# Altium footprint library RMelf0207.PcbLib: 1 footprints
Each footprint in its own frame and in the unit in brackets; x right, y up, seen from the top. Pads: shape width x height; smd on the part's side, far side on the other; paste and mask are expansions set on the pad; w line width, h text height; cw(c..) or ccw(c..) is an arc to the next point about the centre after c.
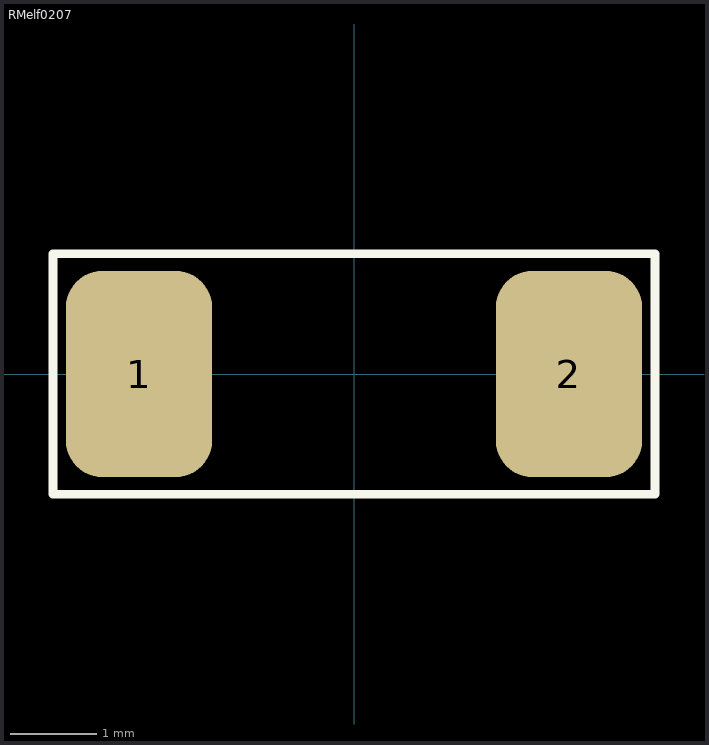
[diagram p0: the footprint, top view; thin cyan lines are the x and y axes]

## RMelf0207 [mm] "Metal Electrode Face (MELF) Diode; Body 5 x 2.5 mm (LxDia)"
height 2.5
pads (2):
  rrect50% 1.7x2.4 smd: 1(-2.5,0) 2(2.5,0)
Top Overlay:
  lines w0.1: -3.5,-1.4 3.5,-1.4 3.5,1.4 -3.5,1.4 -3.5,-1.4
3D body "Melf-0207.STEP": height 2.2, standoff 0, extent -2.65,-1.1 2.65,1.1